# Altium footprint library 5PIN端子.PcbLib: 1 footprints
Each footprint in its own frame and in the unit in brackets; x right, y up, seen from the top. Pads: shape width x height; smd on the part's side, far side on the other; paste and mask are expansions set on the pad; w line width, h text height; cw(c..) or ccw(c..) is an arc to the next point about the centre after c.
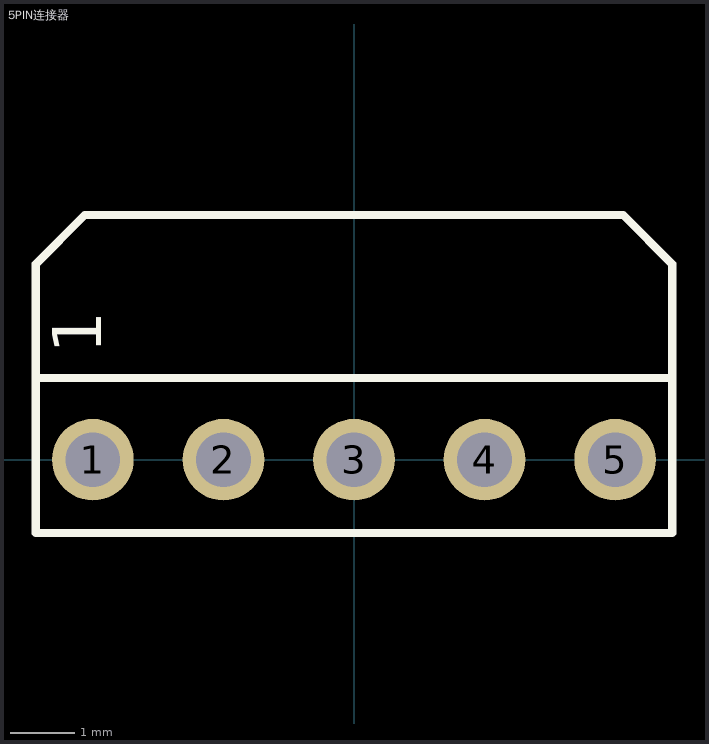
[diagram p0: the footprint, top view; thin cyan lines are the x and y axes]

## 5PIN连接器 [mm] "5PIN/2.0MM"
pads (5):
  round 1.27 hole 0.85: 1(-4.064,0) 2(-2.032,0) 3(0,0) 4(2.032,0) 5(4.064,0)
Top Overlay:
  lines w0.127: -4.953,1.27 -4.953,3.048 -4.191,3.81 4.191,3.81 4.953,3.048 4.953,1.27 ; -4.953,1.27 4.953,1.27 ; -4.953,1.27 -4.953,-1.143 4.953,-1.143 4.953,1.27
  text "1" at -3.937,1.651 h0.76